# Altium footprint library Footprint_SMT_Transistors.PcbLib: 5 footprints
Each footprint in its own frame and in the unit in brackets; x right, y up, seen from the top. Pads: shape width x height; smd on the part's side, far side on the other; paste and mask are expansions set on the pad; w line width, h text height; cw(c..) or ccw(c..) is an arc to the next point about the centre after c.
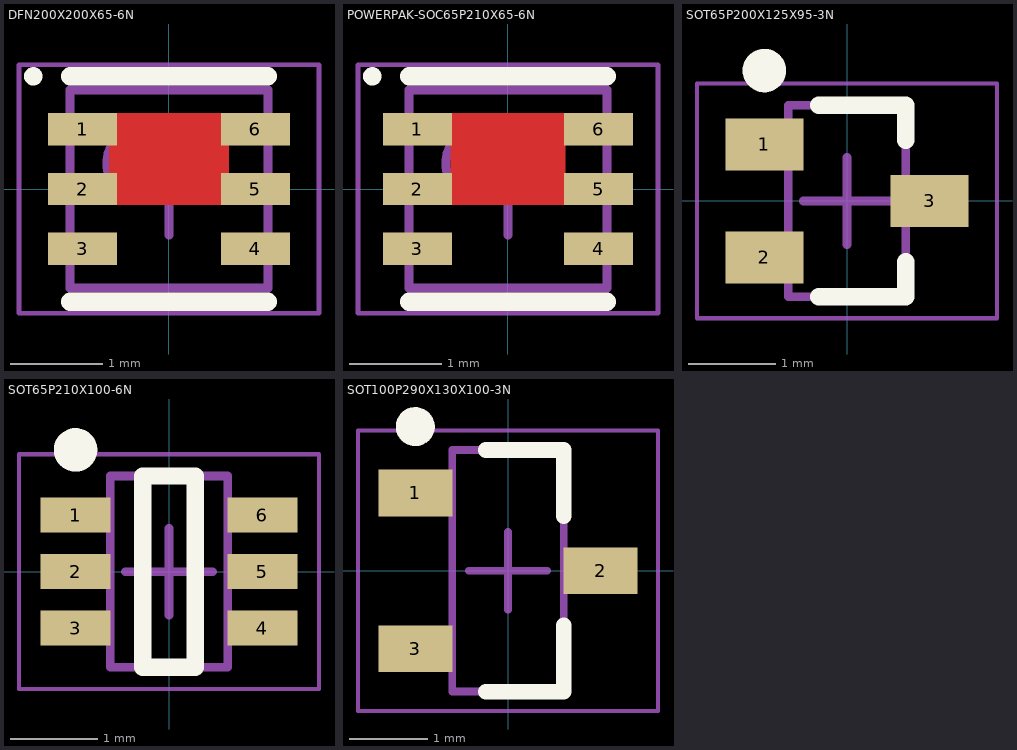
[diagram p0: the footprints below, top view; thin cyan lines are the x and y axes]

## DFN200X200X65-6N [mm] "U-DNF2020-6, 6-Leads, Body 2.00x2.00mm, Pitch 0.65mm, IPC Medium Density"
height 0.65
pads (6):
  rect 0.75x0.35 smd: 1(-0.937,0.65) 2(-0.937,0) 3(-0.937,-0.65) 4(0.937,-0.65) 5(0.937,0) 6(0.937,0.65)
Top Layer:
  rectangle: -0.65,-0.175 0.65,0.825
Top Overlay:
  circle w0.1: c-1.475,1.225 r0.05
  lines w0.2: -1.075,-1.225 1.075,-1.225 ; -1.075,1.225 1.075,1.225
Assembly Top:
  circle w0.1: c-0.275,0.275 r0.4
  lines w0.1: -1.075,-1.075 -1.075,1.075 1.075,1.075 1.075,-1.075 -1.075,-1.075
Courtyard Top:
  lines w0.05: -1.63,-1.35 -1.63,1.35 1.63,1.35 1.63,-1.35 -1.63,-1.35
  lines w0.1: -0.5,0 0.5,0 ; 0,-0.5 0,0.5
3D body "POWERPAK_SOC65P210X65-6N.step": height 0.65, standoff 0, extent -1.076,-1.075 1.076,1.075

## POWERPAK-SOC65P210X65-6N [mm] "PowerPAK SO-70, 6-Leads, Body 2.07x2.07mm, Pitch 0.65mm, IPC Medium Density"
height 0.65
pads (6):
  rect 0.75x0.35 smd: 1(-0.985,0.65) 2(-0.985,0) 3(-0.985,-0.65) 4(0.985,-0.65) 5(0.985,0) 6(0.985,0.65)
Top Layer:
  rectangle: -0.623,-0.175 0.623,0.825
Top Overlay:
  circle w0.1: c-1.475,1.225 r0.05
  lines w0.2: -1.075,-1.225 1.075,-1.225 ; -1.075,1.225 1.075,1.225
Top Paste:
  rectangle: -0.623,-0.175 0.623,0.825
Top Solder:
  rectangle: -0.623,-0.175 0.623,0.825
Assembly Top:
  circle w0.1: c-0.275,0.275 r0.4
  lines w0.1: -1.075,-1.075 1.075,-1.075 1.075,1.075 -1.075,1.075 -1.075,-1.075
Courtyard Top:
  lines w0.05: -1.63,-1.35 1.63,-1.35 1.63,1.35 -1.63,1.35 -1.63,-1.35
  lines w0.1: -0.5,0 0.5,0 ; 0,-0.5 0,0.5
3D body "POWERPAK_SOC65P210X65-6N.step": height 0.65, standoff 0, extent -1.076,-1.075 1.076,1.075

## SOT65P200X125X95-3N [mm] "SOT323, 3-Leads, Body 2.00x1.25x0.95mm, Pitch 0.65mm, IPC Medium Density"
height 1.1
pads (3):
  rect 0.9x0.6 smd: 1(-0.95,0.65) 2(-0.95,-0.65) 3(0.95,0)
Top Overlay:
  circle w0.25: c-0.95,1.5 r0.125
  lines w0.2: -0.325,-1.1 0.675,-1.1 0.675,-0.7 ; -0.325,1.1 0.675,1.1 0.675,0.7
Mechanical 13:
  lines w0.1: -0.675,-1.1 -0.675,1.1 0.675,1.1 0.675,-1.1 -0.675,-1.1
Mechanical 15:
  lines w0.05: -1.725,-1.35 -1.725,1.35 1.725,1.35 1.725,-1.35 -1.725,-1.35
  lines w0.1: -0.5,0 0.5,0 ; 0,-0.5 0,0.5
3D body "SOT65P200X125X95-3N.step": height 1, standoff 0, extent -1.2,-1.1 1.2,1.1

## SOT65P210X100-6N [mm] "SOT23, 6-Leads, Body 2.00x2.10mm, Pitch 0.65mm, IPC Medium Density"
height 1
pads (6):
  rect 0.8x0.4 smd: 1(-1.075,0.65) 2(-1.075,0) 3(-1.075,-0.65) 4(1.075,-0.65) 5(1.075,0) 6(1.075,0.65)
Top Overlay:
  circle w0.25: c-1.075,1.4 r0.125
  lines w0.2: -0.3,-1.1 -0.3,1.1 0.3,1.1 0.3,-1.1 -0.3,-1.1
Assembly Top:
  lines w0.1: -0.675,-1.1 0.675,-1.1 0.675,1.1 -0.675,1.1 -0.675,-1.1
Courtyard Top:
  lines w0.05: -1.725,-1.35 1.725,-1.35 1.725,1.35 -1.725,1.35 -1.725,-1.35
  lines w0.1: -0.5,0 0.5,0 ; 0,-0.5 0,0.5
3D body "SOT65P210X110-6N.step": height 1.1, standoff 0, extent -1.1,-1.1 1.1,1.1

## SOT100P290X130X100-3N [mm] "SOT23, 3-Leads, Body 2.90x1.30x1.00mm, Pitch 1.00mm, IPC Medium Density"
height 1.15
pads (3):
  rect 0.95x0.6 smd: 1(-1.19,1) 2(1.19,0) 3(-1.19,-1)
Top Overlay:
  circle w0.25: c-1.19,1.85 r0.125
  lines w0.2: -0.285,-1.55 0.715,-1.55 0.715,-0.7 ; -0.285,1.55 0.715,1.55 0.715,0.7
Assembly Top:
  lines w0.1: -0.715,-1.55 0.715,-1.55 0.715,1.55 -0.715,1.55 -0.715,-1.55
Courtyard Top:
  lines w0.05: -1.925,-1.8 1.925,-1.8 1.925,1.8 -1.925,1.8 -1.925,-1.8
  lines w0.1: -0.5,0 0.5,0 ; 0,-0.5 0,0.5
3D body "SOT100P290X130X100-3N.step": height 1.15, standoff 0, extent -1.3,-1.55 1.3,1.55